# Altium schematic symbol library S29GL064S70TFI010.SchLib: 1 symbol
Pins are listed as number, name and electrical type; pins without a type are passive.

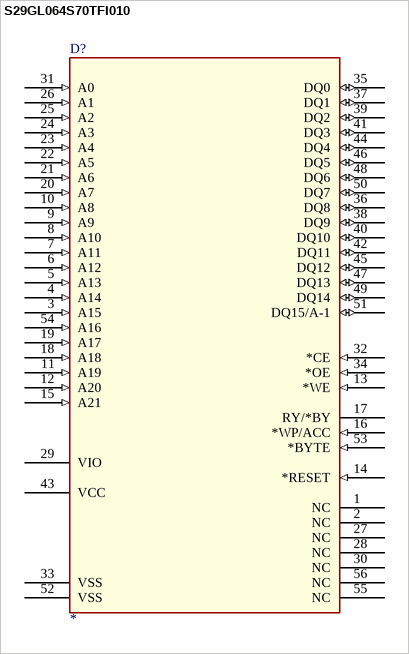
[diagram p0: symbol S29GL064S70TFI010]

## S29GL064S70TFI010
designator D?
No Description Available; Mfr_Name: Cypress Semiconductor; RefDes: RefDes; Type: Type
footprint TSOP56_GLS_SPA
pins: 1 NC, 2 NC, 3 A15 (in), 4 A14 (in), 5 A13 (in), 6 A12 (in), 7 A11 (in), 8 A10 (in), 9 A9 (in), 10 A8 (in), 11 A19 (in), 12 A20 (in), 13 *WE (in), 14 *RESET (in), 15 A21 (in), 16 *WP/ACC (in), 17 RY/*BY, 18 A18 (in), 19 A17 (in), 20 A7 (in), 21 A6 (in), 22 A5 (in), 23 A4 (in), 24 A3 (in), 25 A2 (in), 26 A1 (in), 27 NC, 28 NC, 29 VIO (power), 30 NC, 31 A0 (in), 32 *CE (in), 33 VSS (power), 34 *OE (in), 35 DQ0 (io), 36 DQ8 (io), 37 DQ1 (io), 38 DQ9 (io), 39 DQ2 (io), 40 DQ10 (io), 41 DQ3 (io), 42 DQ11 (io), 43 VCC (power), 44 DQ4 (io), 45 DQ12 (io), 46 DQ5 (io), 47 DQ13 (io), 48 DQ6 (io), 49 DQ14 (io), 50 DQ7 (io), 51 DQ15/A-1 (io), 52 VSS (power), 53 *BYTE (in), 54 A16 (in), 55 NC, 56 NC